# EAGLE library part SN74LVC2G53 (library borkedlabs-analogics)
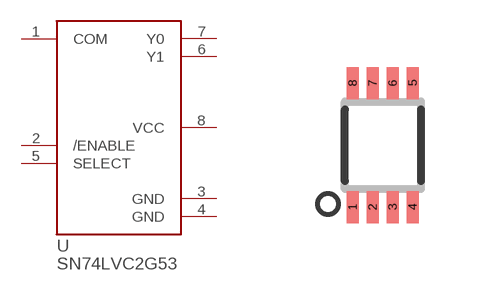
[diagram p0: symbol with the pads of DCU_(R-PDSO-G8); footprint DCU_(R-PDSO-G8)]

Designator prefix U

## SN74LVC2G53DCU  [DCU_(R-PDSO-G8)]
1  COM
2  /ENABLE
3  GND
4  GND
5  SELECT
6  Y1
7  Y0
8  VCC

## Footprint DCU_(R-PDSO-G8) (pad centres in mm)
DCU (R-PDSO-G8) PLASTIC SMALL OUTLINE PACKAGE (DIE DOWN) Soure: Data sheet <http://www.ti.com/lit/ds/symlink/ads7042.pdf>
smd 0.3 x 0.8: 1 -0.75,-1.55; 2 -0.25,-1.55; 3 0.25,-1.55; 4 0.75,-1.55; 5 0.75,1.55; 6 0.25,1.55; 7 -0.25,1.55; 8 -0.75,1.55